# EAGLE library part TOUCHPAD_8 (library dragCustom)
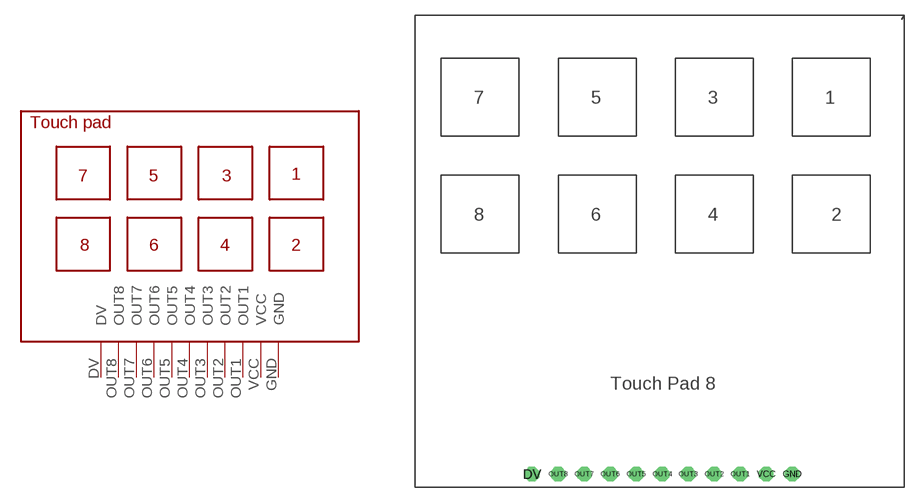
[diagram p16: symbol with the pads of TOUCHPAD_8; footprint TOUCHPAD_8]

Designator prefix -

## TOUCHPAD_8  [TOUCHPAD_8]
DV  DV
GND  GND
OUT1  OUT1
OUT2  OUT2
OUT3  OUT3
OUT4  OUT4
OUT5  OUT5
OUT6  OUT6
OUT7  OUT7
OUT8  OUT8
VCC  VCC

## Footprint TOUCHPAD_8 (pad centres in mm)
drill 0.8 pad 1.422 octagon: DV 11.43,1.27; GND 36.83,1.27; OUT1 31.75,1.27; OUT2 29.21,1.27; OUT3 26.67,1.27; OUT4 24.13,1.27; OUT5 21.59,1.27; OUT6 19.05,1.27; OUT7 16.51,1.27; OUT8 13.97,1.27; VCC 34.29,1.27